# Altium schematic symbol library ATMEGA328P-DIP.SchLib: 1 symbol
Pins are listed as number, name and electrical type; pins without a type are passive.

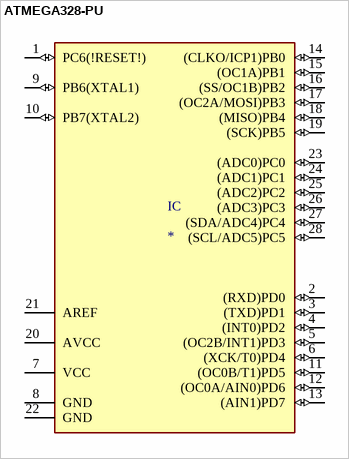
[diagram p0: symbol ATMEGA328-PU]

## ATMEGA328-PU
designator IC
AVR AVRÂ® ATmega Microcontroller IC 8-Bit 20MHz 32KB _16K x 16_ FLASH 28-PDIP; MF: Microchip Technology; MP: ATMEGA328-PU; Package: DIP-28 Microchip Technology; Price: None; Availability: Unavailable; SnapEDA_Link: https://www.snapeda.com/parts/ATMEGA328-PU/Microchip/view-part/4327846/?ref=snap; Value: *
footprint DIL28
pins: 1 PC6(!RESET!) (io), 2 (RXD)PD0 (io), 3 (TXD)PD1 (io), 4 (INT0)PD2 (io), 5 (OC2B/INT1)PD3 (io), 6 (XCK/T0)PD4 (io), 7 VCC (power), 8 GND (power), 9 PB6(XTAL1) (io), 10 PB7(XTAL2) (io), 11 (OC0B/T1)PD5 (io), 12 (OC0A/AIN0)PD6 (io), 13 (AIN1)PD7 (io), 14 (CLKO/ICP1)PB0 (io), 15 (OC1A)PB1 (io), 16 (SS/OC1B)PB2 (io), 17 (OC2A/MOSI)PB3 (io), 18 (MISO)PB4 (io), 19 (SCK)PB5 (io), 20 AVCC (power), 21 AREF, 22 GND (power), 23 (ADC0)PC0 (io), 24 (ADC1)PC1 (io), 25 (ADC2)PC2 (io), 26 (ADC3)PC3 (io), 27 (SDA/ADC4)PC4 (io), 28 (SCL/ADC5)PC5 (io)